# Altium footprint library RAK4200.PcbLib: 7 footprints
Each footprint in its own frame and in the unit in brackets; x right, y up, seen from the top. Pads: shape width x height; smd on the part's side, far side on the other; paste and mask are expansions set on the pad; w line width, h text height; cw(c..) or ccw(c..) is an arc to the next point about the centre after c.
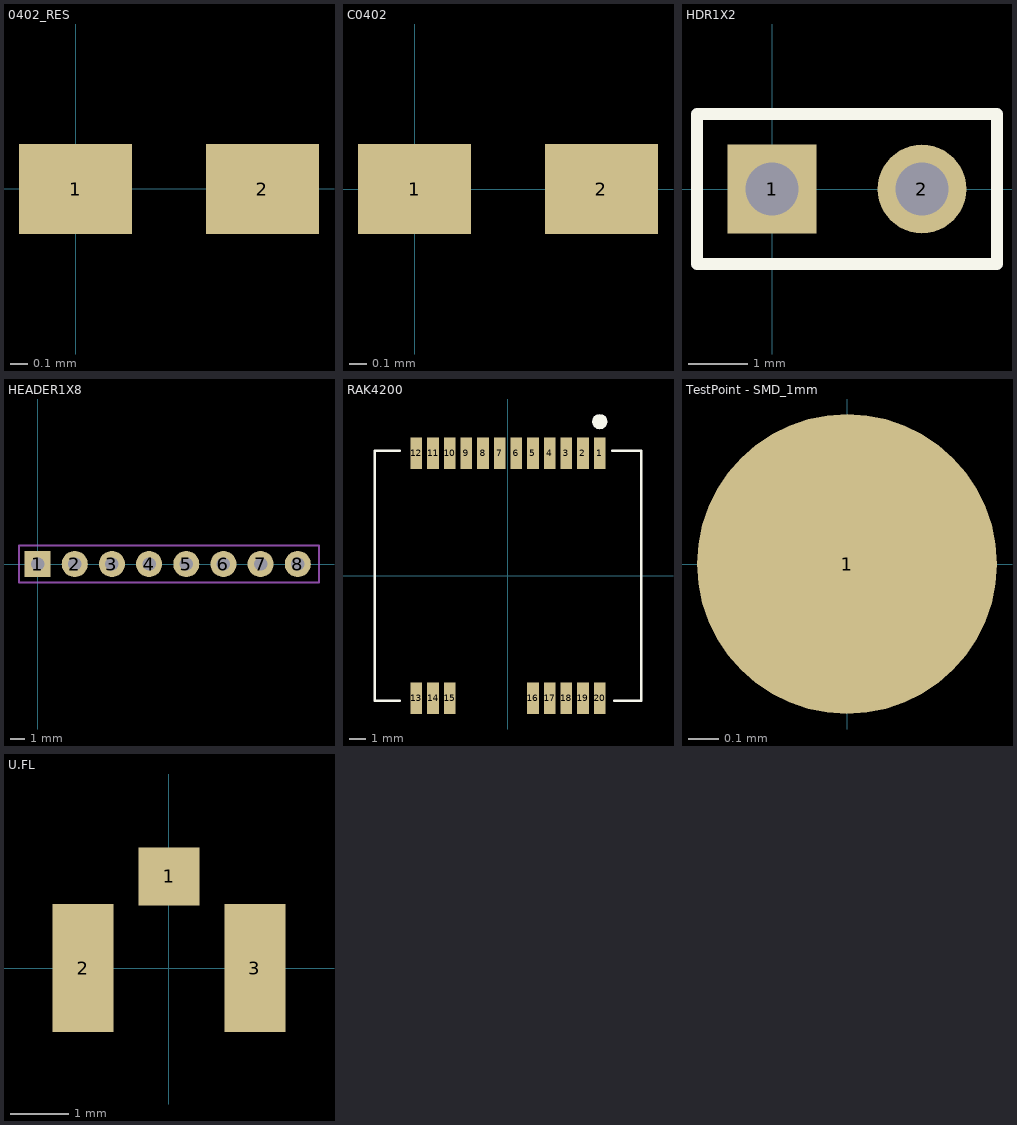
[diagram p0: the footprints below, top view; thin cyan lines are the x and y axes]

## 0402_RES [mil]
pads (2):
  rect 25x20 smd: 1(0,0) 2(41.34,0)
3D body: height 7.95, standoff 0, extent 0.31,-10 39.69,13.62

## C0402 [mil]
pads (2):
  rect 25x20 smd: 1(0,0) 2(41.34,0)
3D body: height 7.95, standoff 0, extent 0.32,-11.81 39.69,11.81

## HDR1X2 [mm]
pads (2):
  rect 1.5x1.5 hole 0.9: 1(0,0)
  round 1.5 hole 0.9: 2(2.54,0)
Top Overlay:
  lines w0.2: -1.27,-1.27 -1.27,1.27 3.81,1.27 3.81,-1.27 -1.27,-1.27
3D body: height 1.89, standoff -9.09, extent -1.215,-1.275 3.865,1.265

## HEADER1X8 [mil] "HEAD15-NOSS"
pads (8):
  rect 70x70 hole 36: 1(0,0)
  round 70 hole 36: 2(100,0) 3(200,0) 4(300,0) 5(400,0) 6(500,0) 7(600,0) 8(700,0)
Mechanical 16:
  lines w5: -50,-50 757.09,-50 757.09,50 -50,50 -50,-50
3D body: height 74.59, standoff -357.7, extent -47.84,-50.2 152.16,49.8
3D body: height 74.59, standoff -357.7, extent 152.16,-50.2 352.16,49.8
3D body: height 74.59, standoff -357.7, extent 352.16,-50.2 552.16,49.8
3D body: height 74.59, standoff -357.7, extent 552.16,-50.2 752.16,49.8

## RAK4200 [mm]
pads (20):
  rect 0.7x1.9 smd: 1(5.5,7.35) 2(4.5,7.35) 3(3.5,7.35) 4(2.5,7.35) 5(1.5,7.35) 6(0.5,7.35) 7(-0.5,7.35) 8(-1.5,7.35) 9(-2.5,7.35) 10(-3.5,7.35) 11(-4.5,7.35) 12(-5.5,7.35) 13(-5.5,-7.35) 14(-4.5,-7.35) 15(-3.5,-7.35) 16(1.5,-7.35) 17(2.5,-7.35) 18(3.5,-7.35) 19(4.5,-7.35) 20(5.5,-7.35)
Top Overlay:
  region: 5.509,8.794 5.684,8.828 5.832,8.927 5.93,9.075 5.965,9.249 5.93,9.424 5.832,9.572 5.684,9.67 5.509,9.705 5.335,9.67 5.187,9.572 5.088,9.424 5.054,9.249 5.088,9.075 5.187,8.927 5.335,8.828
  lines w0.15: -6.5,-7.5 -8,-7.5 -8,7.5 -6.5,7.5 ; 6.248,7.5 8,7.5 8,-7.5 6.375,-7.5
3D body: height 2.5, standoff 0, extent -7.962,-7.509 8.032,7.554

## TestPoint - SMD_1mm [mm]
pads (1):
  round 1 smd mask+0.254: 1(0,0)

## U.FL [mm]
pads (3):
  rect 1.05x1 smd: 1(0,1.575)
  rect 1.05x2.2 smd: 2(-1.475,0) 3(1.475,0)
3D body: height 1.25, standoff 0, extent -1.675,-1.55 1.725,1.55